# Altium schematic symbol library switch_ON_OFF.SchLib: 1 symbol
Pins are listed as number, name and electrical type; pins without a type are passive.

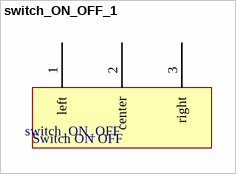
[diagram p0: symbol switch_ON_OFF_1]

## switch_ON_OFF_1
designator switch_ON_OFF  (value not drawn)
footprint PCBComponent_1
pins: 1 left, 2 center, 3 right
text: Switch ON OFF